# EAGLE library part TEXAS_INSTRUMENTS-LDO-LP5912-1.1DRVR (library Module_Regulators)
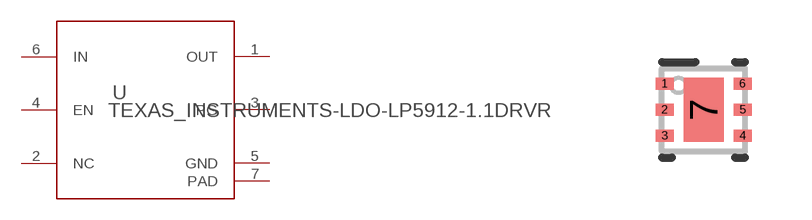
[diagram p4: symbol with the pads of TEXAS_INSTRUMENTS-LDO-LP5912-1.1DRVR; footprint TEXAS_INSTRUMENTS-LDO-LP5912-1.1DRVR]

Designator prefix U

## TEXAS_INSTRUMENTS-LDO-LP5912-1.1DRVR (MANUFACTURER: Texas Instruments; PARTNUMBER: LP59121.1DRVR; REFDES: RefDes; TYPE: TYPE; VALUE: Value)  [TEXAS_INSTRUMENTS-LDO-LP5912-1.1DRVR]
1  OUT  pwr
2  NC  pas
3  PG  out
4  EN  in
5  GND  pwr
6  IN  pwr
7  PAD  pwr

## Footprint TEXAS_INSTRUMENTS-LDO-LP5912-1.1DRVR (pad centres in mm)
smd 0.45 x 0.3: 1 -0.975,0.65; 2 -0.975,0; 3 -0.975,-0.65; 4 0.975,-0.65; 5 0.975,0; 6 0.975,0.65
smd 1 x 1.6: 7 0,0